# Altium schematic symbol library CAP 10uF 35V.Schlib: 1 symbol
Pins are listed as number, name and electrical type; pins without a type are passive.

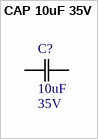
[diagram p0: symbol CAP 10uF 35V]

## CAP 10uF 35V
designator C?, comment Rating: 35V  (hidden comment: 10uF)
CAP CER 10UF 35V X7R 0805; Tolerance: 10%; Package: 0805; Temperature Coefficient: X7R; Operating Temperature: -55°C ~ 125°C; Value: 10uF
footprint 0805
pins: 1 C1, 2 C2